# Altium schematic symbol library Sensors.SchLib: 11 symbols
Pins are listed as number, name and electrical type; pins without a type are passive.

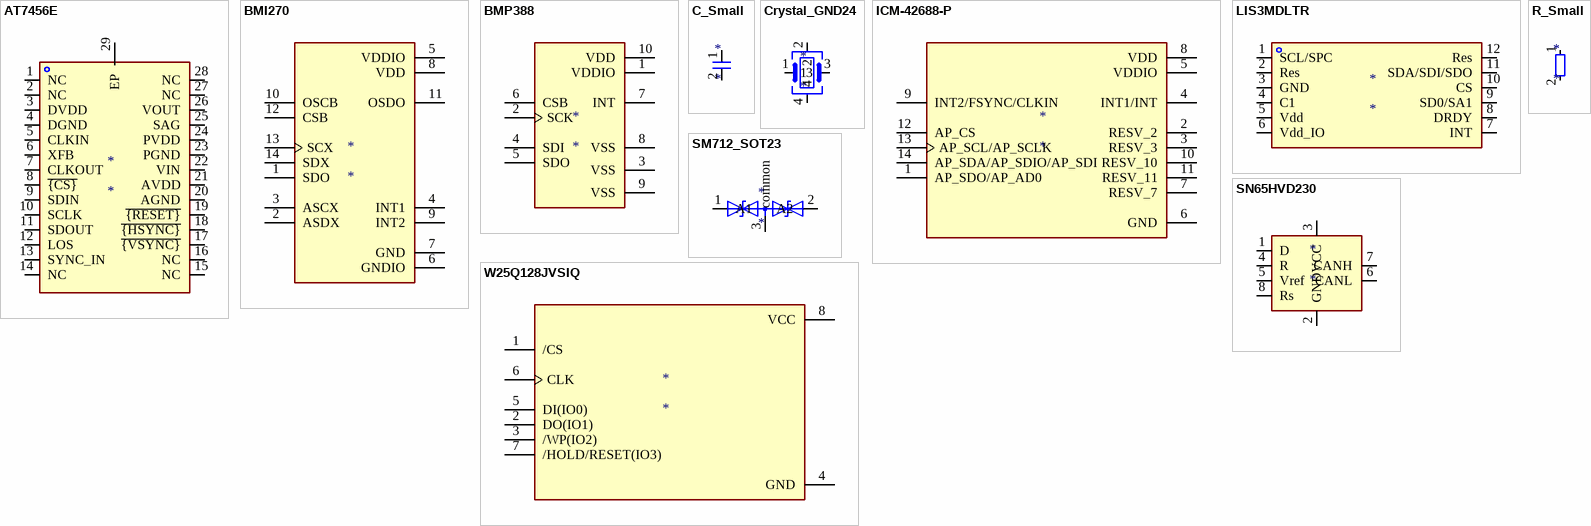
[diagram p0: symbols AT7456E to W25Q128JVSIQ]

## AT7456E
designator *
pins: 1 NC, 2 NC, 3 DVDD, 4 DGND, 5 CLKIN, 6 XFB, 7 CLKOUT, 8 ~{{CS}}, 9 SDIN, 10 SCLK, 11 SDOUT, 12 LOS, 13 SYNC_IN, 14 NC, 15 NC, 16 NC, 17 ~{{VSYNC}}, 18 ~{{HSYNC}}, 19 ~{{RESET}}, 20 AGND, 21 AVDD, 22 VIN, 23 PGND, 24 PVDD, 25 SAG, 26 VOUT, 27 NC, 28 NC, 29 EP

## BMI270
designator *
pins: 1 SDO, 2 ASDX, 3 ASCX, 4 INT1, 5 VDDIO, 6 GNDIO, 7 GND, 8 VDD, 9 INT2, 10 OSCB, 11 OSDO, 12 CSB, 13 SCX, 14 SDX

## BMP388
designator *
pins: 1 VDDIO, 2 SCK, 3 VSS, 4 SDI, 5 SDO, 6 CSB, 7 INT, 8 VSS, 9 VSS, 10 VDD

## C_Small
designator *
pins: 1, 2

## Crystal_GND24
designator *
pins: 1, 2, 3, 4

## ICM-42688-P
designator *
pins: 1 AP_SDO/AP_AD0, 2 RESV_2, 3 RESV_3, 4 INT1/INT, 5 VDDIO, 6 GND, 7 RESV_7, 8 VDD, 9 INT2/FSYNC/CLKIN, 10 RESV_10, 11 RESV_11, 12 AP_CS, 13 AP_SCL/AP_SCLK, 14 AP_SDA/AP_SDIO/AP_SDI

## LIS3MDLTR
designator *
pins: 1 SCL/SPC, 2 Res, 3 GND, 4 C1, 5 Vdd, 6 Vdd_IO, 7 INT, 8 DRDY, 9 SD0/SA1, 10 CS, 11 SDA/SDI/SDO, 12 Res

## R_Small
designator *
pins: 1, 2

## SM712_SOT23
designator *
pins: 1 A1, 2 A2, 3 common

## SN65HVD230
designator *
pins: 1 D, 2 GND, 3 VCC, 4 R, 5 Vref, 6 CANL, 7 CANH, 8 Rs

## W25Q128JVSIQ
designator *
pins: 1 /CS, 2 DO(IO1), 3 /WP(IO2), 4 GND, 5 DI(IO0), 6 CLK, 7 /HOLD/RESET(IO3), 8 VCC